# Altium footprint library ultrasoonSensor.PcbLib: 1 footprints
Each footprint in its own frame and in the unit in brackets; x right, y up, seen from the top. Pads: shape width x height; smd on the part's side, far side on the other; paste and mask are expansions set on the pad; w line width, h text height; cw(c..) or ccw(c..) is an arc to the next point about the centre after c.
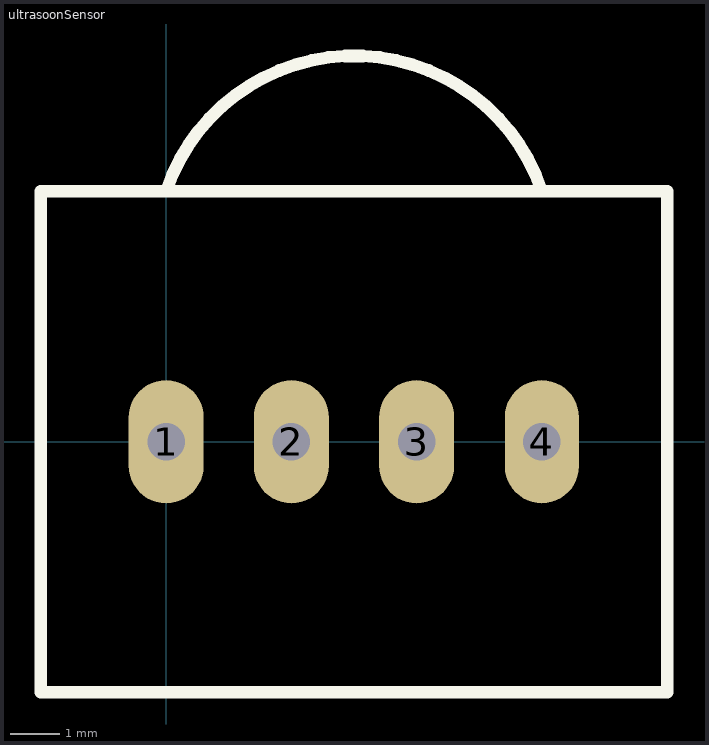
[diagram p0: the footprint, top view; thin cyan lines are the x and y axes]

## ultrasoonSensor [mil]
pads (4):
  oval 60x98.43 hole 30: 1(0,0) 2(100,0) 3(200,0)
  oval 59.06x98.43 hole 30: 4(300,0)
Top Overlay:
  lines w10: 0,200 cw(c150,150) 300,200 ; -100,-200 -100,0 -100,200 400,200 400,-200 -100,-200
3D body: height 118.11, standoff -78.74, extent 280.48,-19.64 319.69,19.65
3D body: height 118.11, standoff -78.74, extent 180.48,-19.64 219.69,19.65
3D body: height 118.11, standoff -78.74, extent 80.48,-19.64 119.69,19.65
3D body: height 118.11, standoff -78.74, extent -19.52,-19.64 19.69,19.65